# EAGLE library part USB-A-FEMALE (library ld-components)
USB type A receptacle FCI 87520-0010BLF
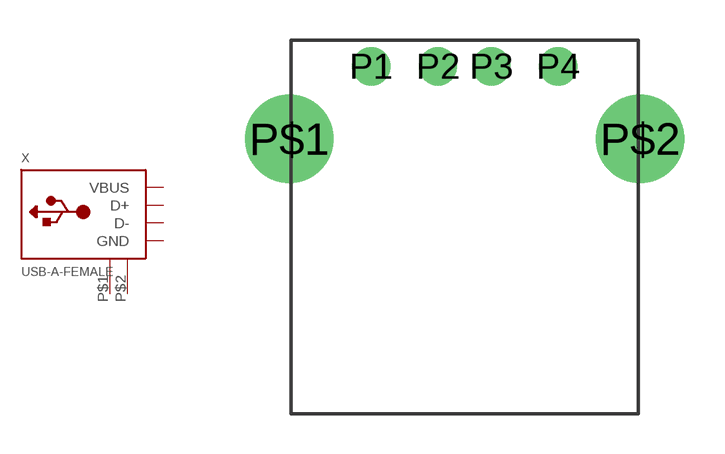
[diagram p6: symbol with the pads of FCI87520; footprint FCI87520]

Designator prefix X

## USB-A-FEMALERECEPTACLE  [FCI87520]
P1  VBUS  pwr
P2  D-
P3  D+
P4  GND  pwr
P$1  GND1  pwr
P$2  GND2  pwr

## Footprint FCI87520 (pad centres in mm)
drill 0.92: P1 -3.5,2.71; P2 -1,2.71; P3 1,2.71; P4 3.5,2.71
drill 2.3: P$1 -6.57,0; P$2 6.57,0